# Altium integrated library DMG3415U-7.IntLib: 1 symbol
Pins are listed as number, name and electrical type; pins without a type are passive.

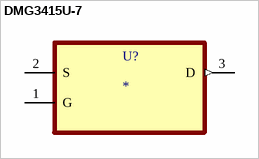
[diagram p0: symbol DMG3415U-7]

## DMG3415U-7
designator U?
MOSFET P-Channel 20V 4A SOT23 | Diodes Inc DMG3415U-7; MF: Diodes Inc.; SnapEDA_Link: https://www.snapeda.com/parts/DMG3415U-7/Diodes+Inc./view-part/?ref=snap; Package: SOT-23 Diodes Inc.; Value: *; MP: DMG3415U-7; Check_prices: https://www.snapeda.com/parts/DMG3415U-7/Diodes+Inc./view-part/?ref=eda
footprint SOT95P240X105-3N
pins: 1 G (power), 2 S, 3 D (out)